# Altium schematic symbol library #6_Nylon_Washer.SchLib: 1 symbol
Pins are listed as number, name and electrical type; pins without a type are passive.

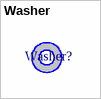
[diagram p0: symbol Washer]

## Washer
designator Washer?, comment Nylon Washer  (value not drawn)
MACHINE SCREW PAN PHILLIPS 6-32; Manufacturer Part Number: 3349; Manufacturer: Keystone Electronics; Catalog Drawings: Flat Washer Side; Thread/Screw/Hole Size: #6; Dynamic Catalog: Nylon and Fiber Flat Washers; Other Names: 3349K; Description: WASHER FLAT #6 NYLON; Supplier 1: Digi-Key; Standard Package: 100; Family: Washers; Type: Flat; Diameter - Inside: 0.140" (3.56mm); Diameter - Outside: 0.312" (7.92mm); Thickness: 0.032" (0.81mm); Material: Nylon; ComponentLink1URL: https://datasheet.ciiva.com/16215/m60-2p131-16215696.pdf; ComponentLink1Description: https://datasheet.ciiva.com/16215/m60-2p131-16215696.pdf; Supplier Part Number 1: 3349K-ND; Stock 1: 26447; Pricing 1: 10=0.064, 50=0.0564, 100=0.0393, 250=0.0339, 500=0.0325, 1000=0.0285, 2500=0.0257, 5000=0.0244 (USD); Category: Hardware, Fasteners, Accessories